# Altium schematic symbol library USBLC6-2.SchLib: 1 symbol
Pins are listed as number, name and electrical type; pins without a type are passive.

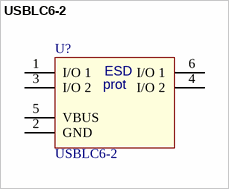
[diagram p0: symbol USBLC6-2]

## USBLC6-2
designator U?
Ultralow capacitance ESD protection; value: USBLC6-2
footprint SOT-23-6 (SOT23, 6-Leads, Body 2.9x1.6mm, Pitch 0.95mm, Lead Span 2.8mm, IPC Medium Density)
pins: 1 I/O 1, 2 GND (power), 3 I/O 2, 4 I/O 2, 5 VBUS, 6 I/O 1
text: ESD; prot